# Altium footprint library standard packages.PcbLib: 4 footprints
Each footprint in its own frame and in the unit in brackets; x right, y up, seen from the top. Pads: shape width x height; smd on the part's side, far side on the other; paste and mask are expansions set on the pad; w line width, h text height; cw(c..) or ccw(c..) is an arc to the next point about the centre after c.
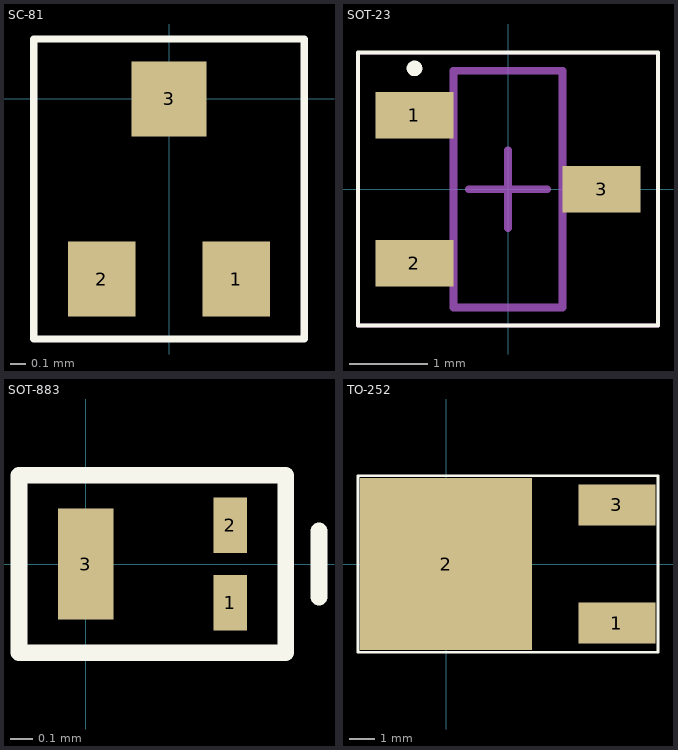
[diagram p0: the footprints below, top view; thin cyan lines are the x and y axes]

## SC-81 [mm] "SC-81"
height 0.65
pads (3):
  rect 0.45x0.5 smd: 1(0.45,-1.2) 2(-0.45,-1.2)
  rect 0.5x0.5 smd: 3(0,0)
Top Overlay:
  lines w0.05: -0.9,-1.6 0.9,-1.6 0.9,0.4 -0.9,0.4 -0.9,-1.6
3D body: height 0.6, standoff 0, extent -0.7,-1 0.7,-0.2

## SOT-23 [mm] "Standard SOT-23"
height 1.11
pads (3):
  rect 1x0.6 smd: 1(-1.2,0.95) 2(-1.2,-0.95) 3(1.2,0)
Top Overlay:
  circle w0.1: c-1.2,1.55 r0.05
  lines w0.05: -1.925,1.75 -1.925,-1.75 1.925,-1.75 1.925,1.75 ; -1.925,1.754 1.925,1.754
Mechanical 13:
  lines w0.1: -0.7,-1.52 -0.7,1.52 0.7,1.52 0.7,-1.52 -0.7,-1.52
Mechanical 15:
  lines w0.05: -1.925,-1.75 -1.925,1.75 1.925,1.75 1.925,-1.75 -1.925,-1.75
  lines w0.1: -0.5,0 0.5,0 ; 0,-0.5 0,0.5
3D body: height 1.05, standoff -0.05, extent -1.225,-1.475 1.275,1.525

## SOT-883 [mm] "SOT-883"
height 0.4
pads (3):
  rect 0.15x0.25 smd: 1(0.65,-0.175) 2(0.65,0.175)
  rect 0.25x0.5 smd: 3(0,0)
Top Overlay:
  lines w0.075: 1.05,-0.15 1.05,0.15 ; -0.3,-0.4 -0.3,0.4 0.9,0.4 0.9,-0.4 -0.3,-0.4
3D body: height 0.4, standoff 0, extent -0.2,-0.3 0.8,0.3

## TO-252 [mm] "Standard TO-252"
height 2.3
pads (3):
  rect 3x1.6 smd: 1(6.65,-2.3) 3(6.65,2.3)
  rect 6.7x6.7 smd: 2(0,0)
Top Overlay:
  lines w0.1: -3.429,-3.429 -3.429,3.429 8.255,3.429 8.255,-3.429 -3.429,-3.429
3D body: height 2.37, standoff -0.03, extent -2.602,-3.367 7.498,3.367